# Altium footprint library FP-S4B-PH-K-S_LF_SN-MFG.PcbLib: 1 footprints
Each footprint in its own frame and in the unit in brackets; x right, y up, seen from the top. Pads: shape width x height; smd on the part's side, far side on the other; paste and mask are expansions set on the pad; w line width, h text height; cw(c..) or ccw(c..) is an arc to the next point about the centre after c.
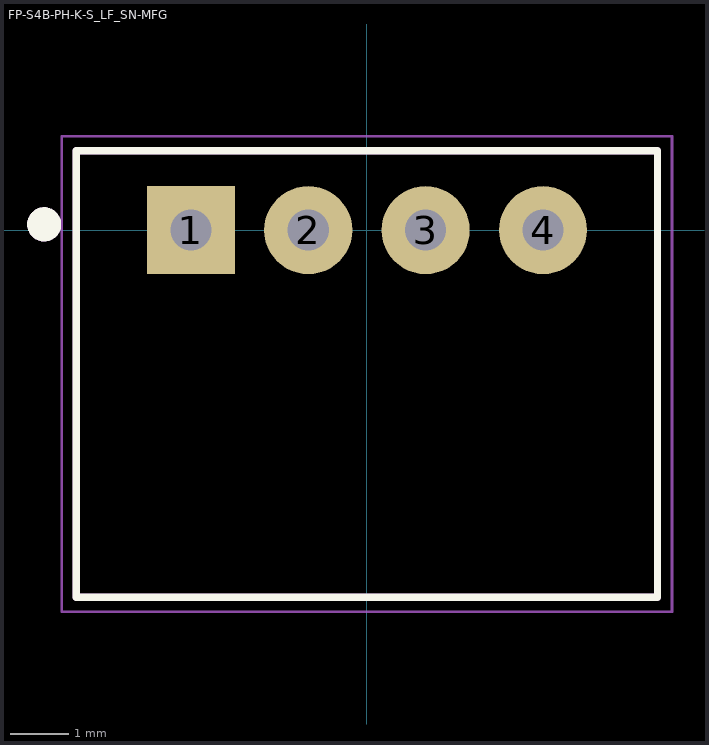
[diagram p0: the footprint, top view; thin cyan lines are the x and y axes]

## FP-S4B-PH-K-S_LF_SN-MFG [mm]
pads (4):
  rect 1.5x1.5 hole 0.7: 1(-3,0)
  round 1.5 hole 0.7: 2(-1,0) 3(1,0) 4(3,0)
Top Overlay:
  circle w0.3: c-5.5,0.1 r0.141
  lines w0.127: -4.95,-6.25 -4.95,1.35 4.95,1.35 4.95,-6.25 -4.95,-6.25
Mechanical 13:
  circle w0.3: c-5.5,0.1 r0.141
  lines w0.127: -4.95,-6.25 4.95,-6.25 4.95,1.35 -4.95,1.35 -4.95,-6.25
Mechanical 15:
  lines w0.05: -5.2,-6.5 5.2,-6.5 5.2,1.6 -5.2,1.6 -5.2,-6.5
3D body "S4B-PH-K-S(LF)(SN)--3DModel-STEP-56544.STEP": height 4.8, standoff -3.38, extent -4.95,-6.223 4.95,1.377